# Altium schematic symbol library SamacSys.SchLib: 68 symbols
Pins are listed as number, name and electrical type; pins without a type are passive.

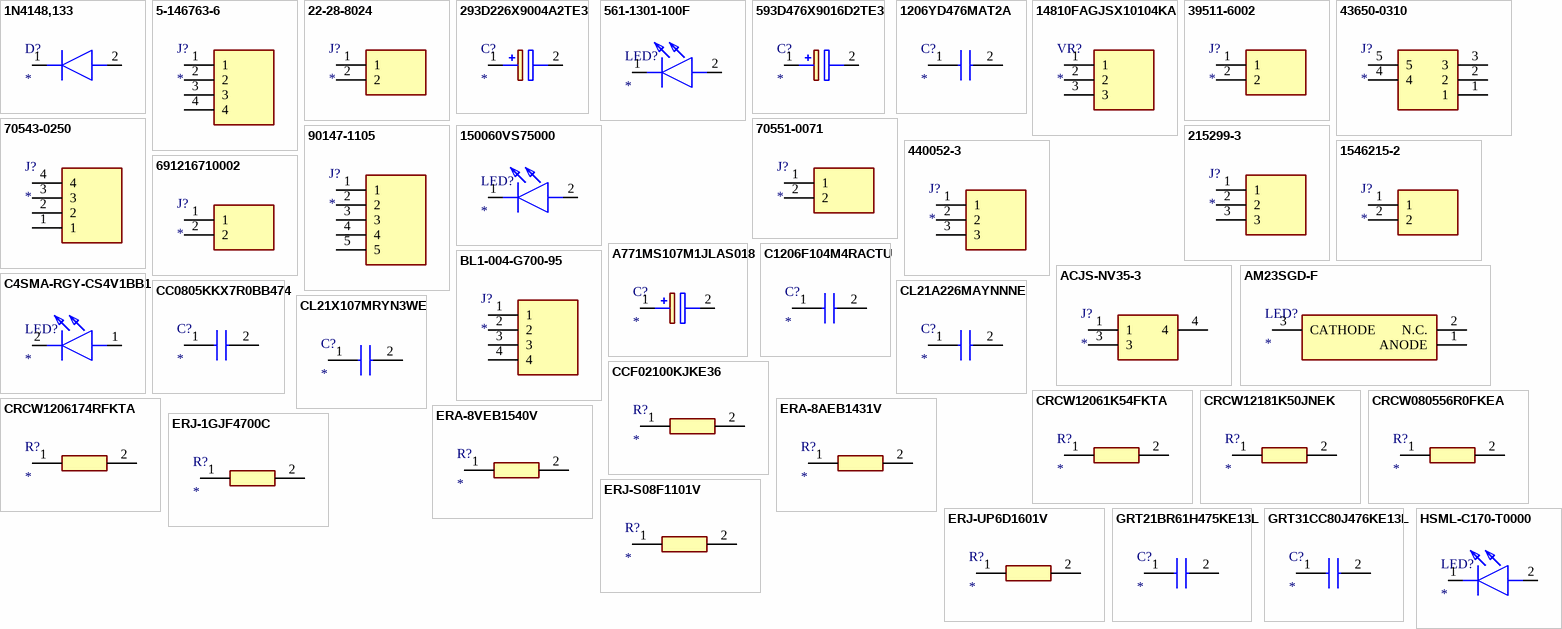
[diagram p0: symbols 1N4148,133 to HSML-C170-T0000]

## 1N4148,133
designator D?
Diode; Manufacturer_Name: Nexperia; Manufacturer_Part_Number: 1N4148,133; Datasheet Link: https://assets.nexperia.com/documents/data-sheet/1N4148_1N4448.pdf; Mouser Part Number: 771-1N4148,133; Mouser Price/Stock: https://www.mouser.co.uk/ProductDetail/Nexperia/1N4148133?qs=elmhQ6eFu7hy8ApvpFxPZg%3D%3D; Arrow Part Number: 1N4148,133; Arrow Price/Stock: https://www.arrow.com/en/products/1n4148133/nxp-semiconductors
footprint DIOAD1165W56L425D185
pins: 1 K, 2 A

## 5-146763-6
designator J?
Connector; Manufacturer_Name: TE Connectivity; Manufacturer_Part_Number: 5-146763-6; Description: 04 MODII VRT SR CE 100; Datasheet Link: https://www.te.com/commerce/DocumentDelivery/DDEController?Action=showdoc&DocId=Customer+Drawing%7F146763%7FH4%7Fpdf%7FEnglish%7FENG_CD_146763_H4.pdf%7F5-146763-6; Height: 8.89mm; Mouser Part Number: 571-5-146763-6; Mouser Price/Stock: https://www.mouser.co.uk/ProductDetail/TE-Connectivity/5-146763-6?qs=0lP%252BFeTxe8ZqcqByeRhudw%3D%3D; Arrow Part Number: 5-146763-6; Arrow Price/Stock: https://www.arrow.com/en/products/5-146763-6/te-connectivity?region=nac
footprint RHDR4W68P0X254_1X4_1016X356X889P
pins: 1, 2, 3, 4

## 22-28-8024
designator J?
Connector; Manufacturer_Name: Molex; Datasheet Link: https://www.molex.com/pdm_docs/sd/022288024_sd.pdf; Height: 2.74mm; Manufacturer_Part_Number: 22-28-8024; Mouser Part Number: 538-22-28-8024; Mouser Price/Stock: https://www.mouser.co.uk/ProductDetail/Molex/22-28-8024?qs=k9kYHbov5vVkaSwo7kQcbg%3D%3D
footprint HDRRA2W66P0X254_1X2_508X229X274P
pins: 1, 2

## 293D226X9004A2TE3
designator C?
Capacitor Polarised; Manufacturer_Name: Vishay; Manufacturer_Part_Number: 293D226X9004A2TE3; Datasheet Link: http://www.vishay.com/docs/40002/293d.pdf; Height: 1.8mm; Mouser Part Number: 74-293D226X9004A2TE3; Mouser Price/Stock: https://www.mouser.co.uk/ProductDetail/Vishay-Sprague/293D226X9004A2TE3?qs=eXAnOQRjAvmASvpC0s6jLA%3D%3D
footprint CAPPM3216X180N
pins: 1 +, 2 -

## 561-1301-100F
designator LED?
LED; Manufacturer_Name: Dialight; Manufacturer_Part_Number: 561-1301-100F; Datasheet Link: https://media.digikey.com/pdf/Data%20Sheets/Dialight%20PDFs/561-zz0z-zzz.pdf; Height: 25.654mm; Mouser Part Number: 645-561-1301-100F; Mouser Price/Stock: https://www.mouser.co.uk/ProductDetail/Dialight/561-1301-100F?qs=0KZIkTEbAAuA32Ooi8rZVQ%3D%3D; Arrow Part Number: 561-1301-100F; Arrow Price/Stock: https://www.arrow.com/en/products/561-1301-100f/dialight
footprint 5611301100F
pins: 1 K, 2 A

## 593D476X9016D2TE3
designator C?
Capacitor Polarised; Manufacturer_Name: Vishay; Manufacturer_Part_Number: 593D476X9016D2TE3; Datasheet Link: http://www.vishay.com/doc?40005; Height: 3.1mm; Mouser Part Number: 74-593D476X9016D2TE3; Mouser Price/Stock: https://www.mouser.co.uk/ProductDetail/Vishay-Sprague/593D476X9016D2TE3?qs=WKZjRGKR2xF7lXVZ0yR4Gw%3D%3D; Arrow Part Number: 593D476X9016D2TE3; Arrow Price/Stock: https://www.arrow.com/en/products/593d476x9016d2te3/vishay?region=nac
footprint CAPPM7343X310N
pins: 1 +, 2 -

## 1206YD476MAT2A
designator C?
Capacitor; Manufacturer_Name: Kyocera AVX; Manufacturer_Part_Number: 1206YD476MAT2A; Datasheet Link: https://www.mouser.co.uk/datasheet/2/40/cx5r-776519.pdf; Height: 2.29mm; Mouser Part Number: 581-1206YD476MAT2A; Mouser Price/Stock: https://www.mouser.co.uk/ProductDetail/KYOCERA-AVX/1206YD476MAT2A?qs=%252BdQmOuGyFcE0u7TEC0Zipw%3D%3D
footprint CAPC3216X229N
pins: 1, 2

## 14810FAGJSX10104KA
designator VR?
Variable Resistor; Manufacturer_Name: Vishay; Manufacturer_Part_Number: 14810FAGJSX10104KA; Datasheet Link: https://www.mouser.co.uk/datasheet/2/427/148149-239924.pdf; Height: 13.1mm; Mouser Part Number: 594-148-7104; Mouser Price/Stock: https://www.mouser.co.uk/ProductDetail/Vishay-Spectrol/14810FAGJSX10104KA?qs=jxJUw0%2FAXLKQRjwLM10Vhg%3D%3D
footprint 14810FAGJSX10104KA
pins: 1, 2, 3

## 39511-6002
designator J?
Connector; Manufacturer_Name: Molex; Manufacturer_Part_Number: 39511-6002; Description: Pluggable Terminal Blocks 3.81MM EURO HEADER V HEADER VERT GRN 2CKT; Datasheet Link: https://au.mouser.com/datasheet/2/276/0395116002_TERMINAL_BLOCKS-164074.pdf; Height: 9.6mm; Mouser Part Number: 538-39511-6002; Mouser Price/Stock: https://www.mouser.co.uk/ProductDetail/Molex/39511-6002?qs=5gX812lLwiHv5sTpASUv%2FQ%3D%3D
footprint 395116002
pins: 1, 2

## 43650-0310
designator J?
Connector; Manufacturer_Name: Molex; Manufacturer_Part_Number: 43650-0310; Datasheet Link: https://www.molex.com/pdm_docs/sd/436500209_sd.pdf; Height: 5.57mm; Mouser Part Number: 538-43650-0310; Mouser Price/Stock: https://www.mouser.co.uk/ProductDetail/Molex/43650-0310?qs=4hg9R9g9MDsujySvOPAVRg%3D%3D
footprint 43650-03YY_091011
pins: 1, 2, 3, 4, 5

## 70543-0250
designator J?
Connector; Manufacturer_Name: Molex; Manufacturer_Part_Number: 70543-0250; Datasheet Link: https://www.molex.com/pdm_docs/sd/705430250_sd.pdf; Height: 11.94mm; Mouser Part Number: 538-70543-0250; Mouser Price/Stock: https://www.mouser.co.uk/ProductDetail/Molex/70543-0250?qs=kYQSPAH4sJy4tcb7Hig5SQ%3D%3D
footprint 705430250
pins: 1, 2, 3, 4

## 70551-0071
designator J?
Connector; Manufacturer_Name: Molex; Manufacturer_Part_Number: 70551-0071; Height: 6.99mm; Mouser Part Number: 538-70551-0071; Mouser Price/Stock: https://www.mouser.co.uk/ProductDetail/Molex/70551-0071?qs=qR36%2FKtWwi%2Fluv9RqAZ1Zw%3D%3D
footprint 705510071
pins: 1, 2

## 90147-1105
designator J?
Connector; Manufacturer_Name: Molex; Manufacturer_Part_Number: 90147-1105; Height: 8.7mm; Mouser Part Number: 538-90147-1105; Mouser Price/Stock: https://www.mouser.co.uk/ProductDetail/Molex/90147-1105?qs=QESXi79X%252BKok%2FrcE1h3Lyg%3D%3D
footprint RHDR5W70P0X254_1X5_1255X244X870P
pins: 1, 2, 3, 4, 5

## 150060VS75000
designator LED?
LED; Manufacturer_Name: Wurth Elektronik; Manufacturer_Part_Number: 150060VS75000; Datasheet Link: https://componentsearchengine.com/Datasheets/2/150060VS75000.pdf; Height: 0.8mm; Mouser Part Number: 710-150060VS75000; Mouser Price/Stock: https://www.mouser.co.uk/ProductDetail/Wurth-Elektronik/150060VS75000?qs=LlUlMxKIyB1Q1Bi5mQ%2FKLw%3D%3D
footprint LEDC1608X80N
pins: 1 K, 2 A

## 215299-3
designator J?
Connector; Manufacturer_Name: TE Connectivity; Manufacturer_Part_Number: 215299-3; Datasheet Link: https://componentsearchengine.com/Datasheets/1/215299-3.pdf; Height: 8.5mm; Mouser Part Number: 571-215299-3; Mouser Price/Stock: https://www.mouser.co.uk/ProductDetail/TE-Connectivity/215299-3?qs=pol9tQvH%252BaHR%252B8PZSmhoEA%3D%3D
footprint SHDR3W78P0X254_1X3_772X252X850P
pins: 1, 2, 3

## 440052-3
designator J?
Connector; Manufacturer_Name: TE Connectivity; Manufacturer_Part_Number: 440052-3; Datasheet Link: https://www.te.com/commerce/DocumentDelivery/DDEController?Action=srchrtrv&DocNm=1-1773713-2_HPI_QRG_EN&DocType=Data%20Sheet&DocLang=English&PartCntxt=440052-3&DocFormat=pdf; Height: 6.3mm; Mouser Part Number: 571-440052-3; Mouser Price/Stock: https://www.mouser.co.uk/ProductDetail/TE-Connectivity/440052-3?qs=JFPmFzpscO5Zy2LImlKaxA%3D%3D; Arrow Part Number: 440052-3; Arrow Price/Stock: https://www.arrow.com/en/products/440052-3/te-connectivity?region=nac
footprint SHDR3W64P0X250_1X3_1000X380X630P
pins: 1, 2, 3

## 1546215-2
designator J?
Connector; Manufacturer_Name: TE Connectivity; Manufacturer_Part_Number: 1546215-2; Datasheet Link: https://www.te.com/commerce/DocumentDelivery/DDEController?Action=srchrtrv&DocNm=1-1773458-1_EURO_STYLE_QRG&DocType=Data%20Sheet&DocLang=English&PartCntxt=1546215-2&DocFormat=pdf; Height: 10.3mm; Mouser Part Number: 571-1546215-2; Mouser Price/Stock: https://www.mouser.co.uk/ProductDetail/TE-Connectivity/1546215-2?qs=Lxq28tKK6BPmJFoAOY7Ljw%3D%3D; Arrow Part Number: 1546215-2; Arrow Price/Stock: https://www.arrow.com/en/products/1546215-2/te-connectivity?region=nac
footprint 15462152
pins: 1, 2

## 691216710002
designator J?
Connector; Manufacturer_Name: Wurth Elektronik; Manufacturer_Part_Number: 691216710002; Datasheet Link: https://katalog.we-online.de/em/datasheet/6912167100XX.pdf; Height: 13.8mm; Mouser Part Number: 710-691216710002; Mouser Price/Stock: https://www.mouser.co.uk/ProductDetail/Wurth-Elektronik/691216710002?qs=w%2Fv1CP2dgqr8TDL32Rr4aQ%3D%3D
footprint SHDR2W90P0X500_1X2_1060X980X1380P
pins: 1, 2

## A771MS107M1JLAS018
designator C?
Capacitor Polarised; Manufacturer_Name: KEMET; Manufacturer_Part_Number: A771MS107M1JLAS018; Datasheet Link: https://search.kemet.com/download/datasheet/A771MS107M1JLAS018; Height: 12.7mm; Mouser Part Number: 80-A771MS107M1JLAS18; Mouser Price/Stock: https://www.mouser.co.uk/ProductDetail/KEMET/A771MS107M1JLAS018?qs=By6Nw2ByBD1azyzbmnH5vw%3D%3D; Arrow Part Number: A771MS107M1JLAS018; Arrow Price/Stock: null?region=nac
footprint A768MS157M1HLAE024
pins: 1 +, 2 -

## ACJS-NV35-3
designator J?
Connector; Manufacturer_Name: Amphenol; Manufacturer_Part_Number: ACJS-NV35-3; Datasheet Link: https://www.amphenolaudio.com/wp-content/uploads/2015/07/55010544000110_acjx-nv35-x.pdf; Height: 27mm; Mouser Part Number: 523-ACJS-NV35-3; Mouser Price/Stock: https://www.mouser.co.uk/ProductDetail/Amphenol-Audio/ACJS-NV35-3?qs=t8VhaDIDl4uNwZ56Tr4iPg%3D%3D; Arrow Part Number: ACJS-NV35-3; Arrow Price/Stock: https://www.arrow.com/en/products/acjs-nv35-3/amphenol-sine-systems
footprint ACJSNV353
pins: 1, 3, 4

## AM23SGD-F
designator LED?
LED; Manufacturer_Name: Kingbright; Manufacturer_Part_Number: AM23SGD-F; Datasheet Link: https://datasheet.datasheetarchive.com/originals/dk/DKDS-14/260841.pdf; Height: 1.45mm; Mouser Part Number: 604-AM23SGD-F; Mouser Price/Stock: https://www.mouser.com/Search/Refine.aspx?Keyword=604-AM23SGD-F
footprint AM23SGDF
pins: 1 ANODE, 2 N.C., 3 CATHODE

## BL1-004-G700-95
designator J?
Connector; Manufacturer_Name: E-TEC; Manufacturer_Part_Number: BL1-004-G700-95; Datasheet Link: http://www.jprelec.co.uk/pdffiles/715-088-099.pdf; Height: 7mm
footprint RHDR4W60P0X254_1X4_1016X254X700P
pins: 1, 2, 3, 4

## C4SMA-RGY-CS4V1BB1
designator LED?
LED; Manufacturer_Name: CREE LED; Manufacturer_Part_Number: C4SMA-RGY-CS4V1BB1; Datasheet Link: https://cree-led.com/media/documents/C4SMA-1442.pdf; Height: 8.8mm; Mouser Part Number: 941-C4SMARGYCS4V1BB1; Mouser Price/Stock: https://www.mouser.co.uk/ProductDetail/Cree-LED/C4SMA-RGY-CS4V1BB1?qs=7D1LtPJG0i08%2Fw1qRIcnyw%3D%3D; Arrow Part Number: C4SMA-RGY-CS4V1BB1; Arrow Price/Stock: https://www.arrow.com/en/products/c4sma-rgy-cs4v1bb1/cree-led?region=nac
footprint C4SMARGYCS4V1BB1
pins: 1 A, 2 K

## C1206F104M4RACTU
designator C?
Capacitor; Manufacturer_Name: KEMET; Manufacturer_Part_Number: C1206F104M4RACTU; Datasheet Link: https://content.kemet.com/datasheets/KEM_C1012_X7R_OPENMODE_SMD.pdf; Mouser Part Number: 80-C1206F104M4R; Mouser Price/Stock: https://www.mouser.com/Search/Refine.aspx?Keyword=80-C1206F104M4R
footprint C1206
pins: 1, 2

## CC0805KKX7R0BB474
designator C?
Capacitor; Manufacturer_Name: YAGEO; Manufacturer_Part_Number: CC0805KKX7R0BB474; Datasheet Link: https://www.arrow.com/en/products/cc0805kkx7r0bb474/yageo?region=nac; Height: 0.95mm; Mouser Part Number: 603-CC0805KX7R0BB474; Mouser Price/Stock: https://www.mouser.co.uk/ProductDetail/YAGEO/CC0805KKX7R0BB474?qs=%252B6g0mu59x7J6Gxc5%2FoipLg%3D%3D; Arrow Part Number: CC0805KKX7R0BB474; Arrow Price/Stock: https://www.arrow.com/en/products/cc0805kkx7r0bb474/yageo?region=nac
footprint CAPC2012X95N
pins: 1, 2

## CCF02100KJKE36
designator R?
Resistor; Manufacturer_Name: Vishay; Manufacturer_Part_Number: CCF02100KJKE36; Datasheet Link: https://www.vishay.com/docs/31012/ccf02.pdf; Mouser Part Number: 71-CCF02100KJKE36; Mouser Price/Stock: https://www.mouser.co.uk/ProductDetail/Vishay-Dale/CCF02100KJKE36?qs=CjqPovozNRzKs0zWEzgyLQ%3D%3D
footprint RESAD2552W86L1080D368
pins: 1, 2

## CL21A226MAYNNNE
designator C?
Capacitor; Manufacturer_Name: SAMSUNG; Manufacturer_Part_Number: CL21A226MAYNNNE; Datasheet Link: http://product.samsungsem.com/mlcc/CL21A226MAYNNN.do; Height: 1.45mm; Mouser Part Number: 187-CL21A226MAYNNNE; Mouser Price/Stock: https://www.mouser.co.uk/ProductDetail/Samsung-Electro-Mechanics/CL21A226MAYNNNE?qs=xZ%2FP%252Ba9zWqY%2FVvCfXjMhqg%3D%3D; Arrow Part Number: CL21A226MAYNNNE; Arrow Price/Stock: https://www.arrow.com/en/products/cl21a226maynnne/samsung-electro-mechanics?region=nac
footprint CAPC2012X145N
pins: 1, 2

## CL21X107MRYN3WE
designator C?
Capacitor; Manufacturer_Name: SAMSUNG; Manufacturer_Part_Number: CL21X107MRYN3WE; Datasheet Link: http://www.samsungsem.com/kr/support/product-search/mlcc/__icsFiles/afieldfile/2019/06/18/CL21B105KBFNNNE-19.pdf; Height: 1.45mm
footprint CAPC2012X145N
pins: 1, 2

## CRCW12061K54FKTA
designator R?
Resistor; Manufacturer_Name: Vishay; Manufacturer_Part_Number: CRCW12061K54FKTA; Datasheet Link: http://componentsearchengine.com/Datasheets/1/CRCW12061K54FKTA.pdf; Height: 0.6mm; Mouser Part Number: 71-CRCW1206-1.54K; Mouser Price/Stock: https://www.mouser.co.uk/ProductDetail/Vishay-Dale/CRCW12061K54FKTA?qs=AHKqt5zS4Bmd9JnYom1Lig%3D%3D
footprint RESC3216X60N
pins: 1, 2

## CRCW12181K50JNEK
designator R?
Resistor; Manufacturer_Name: Vishay; Manufacturer_Part_Number: CRCW12181K50JNEK; Datasheet Link: https://www.vishay.com/docs/20035/dcrcwe3.pdf; Height: 0.6mm
footprint RESC3246X60N
pins: 1, 2

## CRCW080556R0FKEA
designator R?
Resistor; Manufacturer_Name: Vishay; Manufacturer_Part_Number: CRCW080556R0FKEA; Datasheet Link: http://www.vishay.com/docs/20035/dcrcwe3.pdf; Height: 0.5mm; Mouser Part Number: 71-CRCW080556R0FKEA; Mouser Price/Stock: https://www.mouser.co.uk/ProductDetail/Vishay-Dale/CRCW080556R0FKEA?qs=8UjxRNpjuULXqZI3Oden4Q%3D%3D; Arrow Part Number: CRCW080556R0FKEA; Arrow Price/Stock: https://www.arrow.com/en/products/crcw080556r0fkea/vishay?region=nac
footprint RESC2012X50N
pins: 1, 2

## CRCW1206174RFKTA
designator R?
Resistor; Manufacturer_Name: Vishay; Manufacturer_Part_Number: CRCW1206174RFKTA; Height: 0.6mm; Mouser Part Number: 71-CRCW1206-174; Mouser Price/Stock: https://www.mouser.co.uk/ProductDetail/Vishay-Dale/CRCW1206174RFKTA?qs=yGXpg7PJZChK3Wyxj3bB5w%3D%3D
footprint RESC3216X60N
pins: 1, 2

## ERA-8AEB1431V
designator R?
Resistor; Manufacturer_Name: Panasonic; Manufacturer_Part_Number: ERA-8AEB1431V; Datasheet Link: https://industrial.panasonic.com/cdbs/www-data/pdf/RDM0000/AOA0000C307.pdf; Height: 0.7mm; Mouser Part Number: 667-ERA-8AEB1431V; Mouser Price/Stock: https://www.mouser.co.uk/ProductDetail/Panasonic/ERA-8AEB1431V?qs=MNPzkKEzRtRLOshqkJc1UQ%3D%3D
footprint RESC3216X70N
pins: 1, 2

## ERA-8VEB1540V
designator R?
Resistor; Manufacturer_Name: Panasonic; Manufacturer_Part_Number: ERA-8VEB1540V; Datasheet Link: https://industrial.panasonic.com/cdbs/www-data/pdf/RDM0000/RDM0000C331.pdf; Height: 0.65mm
footprint ERA8KEB1004V
pins: 1, 2

## ERJ-1GJF4700C
designator R?
Resistor; Manufacturer_Name: Panasonic; Manufacturer_Part_Number: ERJ-1GJF4700C; Datasheet Link: https://industrial.panasonic.com/cdbs/www-data/pdf/RDA0000/AOA0000C304.pdf; Height: 0.26mm; Mouser Part Number: 667-ERJ-1GJF4700C; Mouser Price/Stock: https://www.mouser.co.uk/ProductDetail/Panasonic/ERJ-1GJF4700C?qs=OcgtsXO%252B3gu9AFcFTiiiHQ%3D%3D
footprint ERJ1GJJ2R4C
pins: 1, 2

## ERJ-S08F1101V
designator R?
Resistor; Manufacturer_Name: Panasonic; Manufacturer_Part_Number: ERJ-S08F1101V; Datasheet Link: http://industrial.panasonic.com/cdbs/www-data/pdf/RDP0000/AOA0000C334.pdf; Height: 0.7mm
footprint ERJS08_U08_(1206)
pins: 1, 2

## ERJ-UP6D1601V
designator R?
Resistor; Manufacturer_Name: Panasonic; Manufacturer_Part_Number: ERJ-UP6D1601V; Datasheet Link: https://industrial.panasonic.com/cdbs/www-data/pdf/RDP0000/AOA0000C337.pdf; Height: 0.7mm; Mouser Part Number: 667-ERJ-UP6D1601V; Mouser Price/Stock: https://www.mouser.co.uk/ProductDetail/Panasonic/ERJ-UP6D1601V?qs=ZcfC38r4Potm8cwy0RM5WA%3D%3D
footprint ERJUP6
pins: 1, 2

## GRT21BR61H475KE13L
designator C?
Capacitor; Manufacturer_Name: Murata Electronics; Manufacturer_Part_Number: GRT21BR61H475KE13L; Datasheet Link: https://psearch.en.murata.com/capacitor/product/GRT21BR61H475KE13%23.html; Height: 1.35mm; Mouser Part Number: 81-GRT21BR61H475KE3L; Mouser Price/Stock: https://www.mouser.co.uk/ProductDetail/Murata-Electronics/GRT21BR61H475KE13L?qs=drgMNd%252BkGPOkdtnwKnU3FQ%3D%3D; Arrow Part Number: GRT21BR61H475KE13L; Arrow Price/Stock: https://www.arrow.com/en/products/grt21br61h475ke13l/murata-manufacturing?region=nac
footprint GRT21BR61E226ME13L
pins: 1, 2

## GRT31CC80J476KE13L
designator C?
Capacitor; Manufacturer_Name: Murata Electronics; Manufacturer_Part_Number: GRT31CC80J476KE13L; Datasheet Link: https://psearch.en.murata.com/capacitor/product/GRT31CC80J476KE13%23.html; Height: 1.8mm; Mouser Part Number: 81-GRT31CC80J476KE3L; Mouser Price/Stock: https://www.mouser.co.uk/ProductDetail/Murata-Electronics/GRT31CC80J476KE13L?qs=drgMNd%252BkGPPnDPuAFTMTlw%3D%3D; Arrow Part Number: GRT31CC80J476KE13L; Arrow Price/Stock: https://www.arrow.com/en/products/grt31cc80j476ke13l/murata-manufacturing?region=nac
footprint CAPC3216X180N
pins: 1, 2

## HSML-C170-T0000
designator LED?
LED; Manufacturer_Name: Avago Technologies; Manufacturer_Part_Number: HSML-C170-T0000; Datasheet Link: https://docs.broadcom.com/docs/HSML-C170-T0000-DS100; Height: 0.9mm; Mouser Part Number: 630-HSML-C170-T0000; Mouser Price/Stock: https://www.mouser.co.uk/ProductDetail/Broadcom-Avago/HSML-C170-T0000?qs=tMOYG%252Bw4%252BLxmTmD%252BKOjV4Q%3D%3D
footprint LEDC2012X90N
pins: 1 K, 2 A

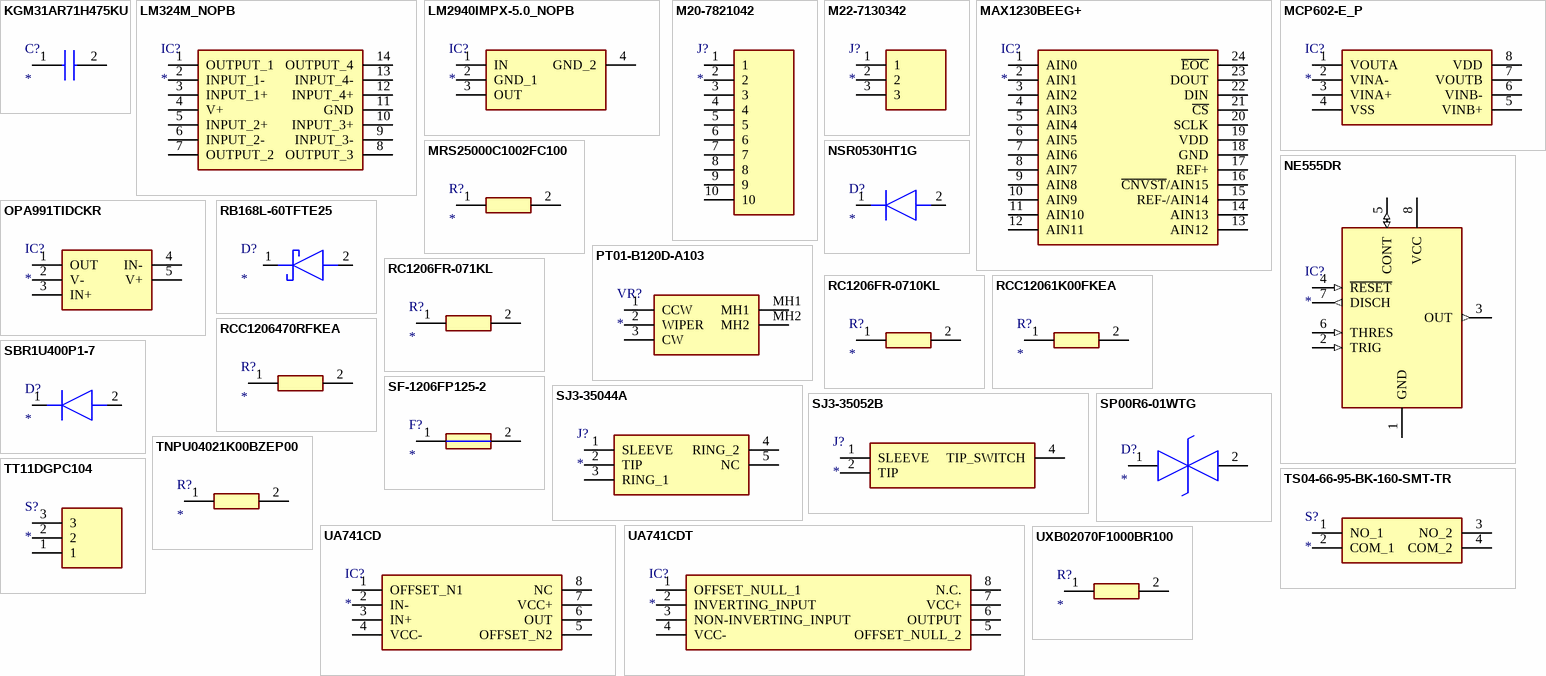
[diagram p1: symbols KGM31AR71H475KU to UXB02070F1000BR100]

## KGM31AR71H475KU
designator C?
Capacitor; Manufacturer_Name: Kyocera AVX; Manufacturer_Part_Number: KGM31AR71H475KU; Datasheet Link: https://eu.mouser.com/datasheet/2/40/KGM_X7R-3223212.pdf; Height: 1.8mm; Mouser Part Number: 581-KGM31AR71H475KU; Mouser Price/Stock: https://www.mouser.co.uk/ProductDetail/KYOCERA-AVX/KGM31AR71H475KU?qs=9vOqFld9vZWqrEB01UnVcA%3D%3D; Arrow Part Number: KGM31AR71H475KU; Arrow Price/Stock: https://www.arrow.com/en/products/kgm31ar71h475ku/avx?region=europe
footprint CAPC3216X180N
pins: 1, 2

## LM324M_NOPB
designator IC?
Integrated Circuit; Manufacturer_Name: Texas Instruments; Manufacturer_Part_Number: LM324M/NOPB; Datasheet Link: http://www.ti.com/lit/ds/symlink/lm324-n.pdf; Height: 1.75mm; Mouser Part Number: 926-LM324M/NOPB; Mouser Price/Stock: https://www.mouser.co.uk/ProductDetail/Texas-Instruments/LM324M-NOPB?qs=X1J7HmVL2ZFotTeVrwhf%252BA%3D%3D; Arrow Part Number: LM324M/NOPB; Arrow Price/Stock: https://www.arrow.com/en/products/lm324mnopb/texas-instruments
footprint SOIC127P600X175-14N
pins: 1 OUTPUT_1, 2 INPUT_1-, 3 INPUT_1+, 4 V+, 5 INPUT_2+, 6 INPUT_2-, 7 OUTPUT_2, 8 OUTPUT_3, 9 INPUT_3-, 10 INPUT_3+, 11 GND, 12 INPUT_4+, 13 INPUT_4-, 14 OUTPUT_4

## LM2940IMPX-5.0_NOPB
designator IC?
Integrated Circuit; Manufacturer_Name: Texas Instruments; Manufacturer_Part_Number: LM2940IMPX-5.0/NOPB; Datasheet Link: http://www.ti.com/lit/gpn/lm2940-n; Height: 1.8mm; Mouser Part Number: 926-LM2940IMPX50NOPB; Mouser Price/Stock: https://www.mouser.co.uk/ProductDetail/Texas-Instruments/LM2940IMPX-5.0-NOPB?qs=X1J7HmVL2ZELzMHXu8bpyQ%3D%3D; Arrow Part Number: LM2940IMPX-5.0/NOPB; Arrow Price/Stock: https://www.arrow.com/en/products/lm2940impx-5.0nopb/texas-instruments?region=nac
footprint SOT230P700X180-4N
pins: 1 IN, 2 GND_1, 3 OUT, 4 GND_2

## M20-7821042
designator J?
Connector; Manufacturer_Name: Harwin; Manufacturer_Part_Number: M20-7821042; Datasheet Link: https://cdn.harwin.com/pdfs/M20-782.pdf; Height: 8.65mm; Mouser Part Number: 855-M20-7821042; Mouser Price/Stock: https://www.mouser.co.uk/ProductDetail/Harwin/M20-7821042?qs=Jph8NoUxIfUg6RlpQXBvqA%3D%3D
footprint SHDR10W70P0X254_1X10_2580X250X865P
pins: 1, 2, 3, 4, 5, 6, 7, 8, 9, 10

## M22-7130342
designator J?
Connector; Manufacturer_Name: Harwin; Manufacturer_Part_Number: M22-7130342; Datasheet Link: https://cdn.harwin.com/pdfs/M22-713.pdf; Height: 4.4mm; Mouser Part Number: 855-M22-7130342; Mouser Price/Stock: https://www.mouser.co.uk/ProductDetail/Harwin/M22-7130342?qs=ulE8k0yEMYayWQDoDALDQw%3D%3D
footprint SHDR3W50P0X200_1X3_650X240X440P
pins: 1, 2, 3

## MAX1230BEEG+
designator IC?
Integrated Circuit; Manufacturer_Name: Analog Devices; Manufacturer_Part_Number: MAX1230BEEG+; Datasheet Link: https://componentsearchengine.com/Datasheets/1/MAX1230BEEG+.pdf; Height: 1.75mm; Mouser Part Number: 700-MAX1230BEEG; Mouser Price/Stock: https://www.mouser.co.uk/ProductDetail/Maxim-Integrated/MAX1230BEEG%2b/?qs=9Cj2FLRihcMtdMqaaF0rig%3D%3D; Arrow Part Number: MAX1230BEEG+; Arrow Price/Stock: https://www.arrow.com/en/products/max1230beeg/analog-devices?region=europe
footprint SOP64P602X175-24N
pins: 1 AIN0, 2 AIN1, 3 AIN2, 4 AIN3, 5 AIN4, 6 AIN5, 7 AIN6, 8 AIN7, 9 AIN8, 10 AIN9, 11 AIN10, 12 AIN11, 13 AIN12, 14 AIN13, 15 REF-/AIN14, 16 ~{CNVST}/AIN15, 17 REF+, 18 GND, 19 VDD, 20 SCLK, 21 ~{CS}, 22 DIN, 23 DOUT, 24 ~{EOC}

## MCP602-E_P
designator IC?
Integrated Circuit; Manufacturer_Name: Microchip; Manufacturer_Part_Number: MCP602-E/P; Datasheet Link: http://uk.rs-online.com/web/p/products/7747438; Height: 5.334mm; Mouser Part Number: 579-MCP602-E/P; Mouser Price/Stock: https://www.mouser.co.uk/ProductDetail/Microchip-Technology/MCP602-E-P?qs=DYhulPWWrtuNZ6eoaQ9R7Q%3D%3D; Arrow Part Number: MCP602-E/P; Arrow Price/Stock: https://www.arrow.com/en/products/mcp602-ep/microchip-technology?region=nac
footprint DIP781W56P254L950H533Q8N
pins: 1 VOUTA, 2 VINA-, 3 VINA+, 4 VSS, 5 VINB+, 6 VINB-, 7 VOUTB, 8 VDD

## MRS25000C1002FC100
designator R?
Resistor; Manufacturer_Name: Vishay; Manufacturer_Part_Number: MRS25000C1002FC100; Datasheet Link: http://www.vishay.com/docs/28724/mrs16m25.pdf; Mouser Part Number: 594-2322-156-11003; Mouser Price/Stock: https://www.mouser.co.uk/ProductDetail/Vishay-BC-Components/MRS25000C1002FC100?qs=B52Dqq1Chl6h6M7hjffcZQ%3D%3D; Arrow Part Number: MRS25000C1002FC100; Arrow Price/Stock: https://www.arrow.com/en/products/mrs25000c1002fc100/vishay?region=nac
footprint RESAD1650W60L650D250
pins: 1, 2

## NE555DR
designator IC?
Integrated Circuit; Manufacturer_Name: Texas Instruments; Manufacturer_Part_Number: NE555DR; Datasheet Link: http://www.ti.com/lit/ds/symlink/ne555.pdf; Height: 1.75mm; Mouser Part Number: 595-NE555DR; Mouser Price/Stock: https://www.mouser.com/Search/Refine.aspx?Keyword=595-NE555DR; RS Part Number: 1218414; RS Price/Stock: http://uk.rs-online.com/web/p/products/1218414
footprint SOIC127P600X175-8N
pins: 1 GND (power), 2 TRIG (in), 3 OUT (out), 4 ~{RESET} (in), 5 CONT (io), 6 THRES (in), 7 DISCH (out), 8 VCC (power)

## NSR0530HT1G
designator D?
Diode; Manufacturer_Name: onsemi; Manufacturer_Part_Number: NSR0530HT1G; Datasheet Link: https://eagle.componentsearchengine.com/Datasheets/5/NSR0530HT1G.pdf; Height: 1.1mm; Mouser Part Number: 863-NSR0530HT1G; Mouser Price/Stock: https://www.mouser.co.uk/ProductDetail/onsemi/NSR0530HT1G?qs=raqtESnDWsD7hIBo7i2utQ%3D%3D; Arrow Part Number: NSR0530HT1G; Arrow Price/Stock: https://www.arrow.com/en/products/nsr0530ht1g/on-semiconductor?region=nac
footprint SOD2512X110N
pins: 1 K, 2 A

## OPA991TIDCKR
designator IC?
Integrated Circuit; Manufacturer_Name: Texas Instruments; Manufacturer_Part_Number: OPA991TIDCKR; Datasheet Link: https://www.ti.com/lit/ds/symlink/opa991.pdf?ts=1634650356786&ref_url=https%253A%252F%252Feu.mouser.com%252F; Height: 1.1mm; Mouser Part Number: 595-OPA991TIDCKR; Mouser Price/Stock: https://www.mouser.co.uk/ProductDetail/Texas-Instruments/OPA991TIDCKR?qs=Wj%2FVkw3K%252BMD%2FIzu2Yv2xzw%3D%3D; Arrow Part Number: OPA991TIDCKR; Arrow Price/Stock: https://www.arrow.com/en/products/opa991tidckr/texas-instruments?region=nac
footprint SOT65P210X110-5N
pins: 1 OUT, 2 V-, 3 IN+, 4 IN-, 5 V+

## PT01-B120D-A103
designator VR?
Variable Resistor; Manufacturer_Name: Same Sky; Manufacturer_Part_Number: PT01-B120D-A103; Datasheet Link: https://www.cuidevices.com/product/resource/pt01.pdf; Height: 16mm; Mouser Part Number: 179-PT01-B120D-A103; Mouser Price/Stock: https://www.mouser.co.uk/ProductDetail/CUI-Devices/PT01-B120D-A103?qs=Rp5uXu7WBW9W%2F89xdyZZvA%3D%3D
footprint PT01B120DA103
pins: 1 CCW, 2 WIPER, 3 CW, MH1, MH2

## RB168L-60TFTE25
designator D?
Schottky Diode; Manufacturer_Name: ROHM Semiconductor; Manufacturer_Part_Number: RB168L-60TFTE25; Datasheet Link: https://fscdn.rohm.com/en/products/databook/datasheet/discrete/diode/schottky_barrier/rb168l-60tfte25-e.pdf; Height: 2.2mm; Mouser Part Number: 755-RB168L-60TFTE25; Mouser Price/Stock: https://www.mouser.co.uk/ProductDetail/ROHM-Semiconductor/RB168L-60TFTE25?qs=4v%252BiZTmLVHHXHBPPA5dksA%3D%3D
footprint DIOM5026X220N
pins: 1 K, 2 A

## RC1206FR-071KL
designator R?
Resistor; Manufacturer_Name: KEMET; Manufacturer_Part_Number: RC1206FR-071KL; Datasheet Link: https://www.sos.sk/productdata/35/10/4/35104/RC1206.pdf; Height: 0.65mm; Mouser Part Number: 603-RC1206FR-071KL; Mouser Price/Stock: https://www.mouser.co.uk/ProductDetail/YAGEO/RC1206FR-071KL?qs=HQvIwrFd5cVee6AAIEc2GA%3D%3D; Arrow Part Number: RC1206FR-071KL; Arrow Price/Stock: https://www.arrow.com/en/products/rc1206fr-071kl/yageo?region=europe
footprint RESC3116X65N
pins: 1, 2

## RC1206FR-0710KL
designator R?
Resistor; Manufacturer_Name: YAGEO; Manufacturer_Part_Number: RC1206FR-0710KL; Datasheet Link: https://www.yageo.com/upload/media/product/app/datasheet/rchip/pyu-rc_group_51_rohs_l.pdf; Height: 0.65mm; Mouser Part Number: 603-RC1206FR-0710KL; Mouser Price/Stock: https://www.mouser.co.uk/ProductDetail/YAGEO/RC1206FR-0710KL?qs=%252BhB4WxZmbVEJV82xdVgRUw%3D%3D; Arrow Part Number: RC1206FR-0710KL; Arrow Price/Stock: https://www.arrow.com/en/products/rc1206fr-0710kl/yageo?region=europe
footprint RESC3116X65N
pins: 1, 2

## RCC12061K00FKEA
designator R?
Resistor; Manufacturer_Name: Vishay; Manufacturer_Part_Number: RCC12061K00FKEA; Datasheet Link: https://www.vishay.com/docs/20066/rcce3.pdf; Height: 0.6mm; Mouser Part Number: 71-RCC12061K00FKEA; Mouser Price/Stock: https://www.mouser.co.uk/ProductDetail/Vishay-Dale/RCC12061K00FKEA?qs=IS%252B4QmGtzzoI2b9zl4DztQ%3D%3D; Arrow Part Number: RCC12061K00FKEA; Arrow Price/Stock: https://www.arrow.com/en/products/rcc12061k00fkea/vishay?utm_currency=USD&region=nac
footprint RCC1206_e3
pins: 1, 2

## RCC1206470RFKEA
designator R?
Resistor; Manufacturer_Name: Vishay; Manufacturer_Part_Number: RCC1206470RFKEA; Datasheet Link: https://www.vishay.com/docs/20066/rcce3.pdf; Height: 0.6mm
footprint RCC1206_e3
pins: 1, 2

## SBR1U400P1-7
designator D?
Diode; Manufacturer_Name: Diodes Incorporated; Manufacturer_Part_Number: SBR1U400P1-7; Datasheet Link: https://componentsearchengine.com/Datasheets/2/SBR1U400P1-7.pdf; Height: 1mm; Mouser Part Number: 621-SBR1U400P1-7; Mouser Price/Stock: https://www.mouser.co.uk/ProductDetail/Diodes-Incorporated/SBR1U400P1-7?qs=F%252BMksZCx5FCZNrtpKRpk0w%3D%3D; Arrow Part Number: SBR1U400P1-7; Arrow Price/Stock: https://www.arrow.com/en/products/sbr1u400p1-7/diodes-incorporated?region=asia
footprint SBR1U400P17
pins: 1 K, 2 A

## SF-1206FP125-2
designator F?
Fuse; Manufacturer_Name: Bourns; Manufacturer_Part_Number: SF-1206FP125-2; Datasheet Link: https://www.bourns.com/docs/product-datasheets/sf-1206fp.pdf; Height: 0.7mm; Mouser Part Number: 652-SF-1206FP125-2; Mouser Price/Stock: https://www.mouser.co.uk/ProductDetail/Bourns/SF-1206FP125-2?qs=YCa%2FAAYMW03arYqWrnBYMQ%3D%3D; Arrow Part Number: SF-1206FP125-2; Arrow Price/Stock: https://www.arrow.com/en/products/sf-1206fp125-2/bourns?region=nac
footprint FUSC3116X70N
pins: 1, 2

## SJ3-35044A
designator J?
Connector; Manufacturer_Name: Same Sky; Manufacturer_Part_Number: SJ3-35044A; Datasheet Link: https://www.cuidevices.com/product/resource/sj3-35044a.pdf; Height: 6.3mm; Mouser Part Number: 179-SJ3-35044A; Mouser Price/Stock: https://www.mouser.co.uk/ProductDetail/CUI-Devices/SJ3-35044A?qs=IKkN%2F947nfA%2F9r2%2FyF4SEA%3D%3D
footprint SJ335044A
pins: 1 SLEEVE, 2 TIP, 3 RING_1, 4 RING_2, 5 NC

## SJ3-35052B
designator J?
Connector; Manufacturer_Name: Same Sky; Manufacturer_Part_Number: SJ3-35052B; Datasheet Link: https://www.cuidevices.com/product/resource/sj3-3505x.pdf; Height: 17.75mm; Mouser Part Number: 179-SJ3-35052B; Mouser Price/Stock: https://www.mouser.co.uk/ProductDetail/CUI-Devices/SJ3-35052B?qs=IKkN%2F947nfDmh7CCP4LptQ%3D%3D
footprint SJ335052B
pins: 1 SLEEVE, 2 TIP, 4 TIP_SWITCH

## SP00R6-01WTG
designator D?
Diode ESD (Bi-directional); Manufacturer_Name: LITTELFUSE; Manufacturer_Part_Number: SP00R6-01WTG; Datasheet Link: https://www.littelfuse.com/media?resourcetype=datasheets&itemid=5fa6369d-0e65-4a4f-8ed7-0e61eb3c9fbf&filename=littelfuse-tvs-diode-array-sp00r6-datasheet; Height: 0.329mm; Mouser Part Number: 576-SP00R6-01WTG; Mouser Price/Stock: https://www.mouser.co.uk/ProductDetail/Littelfuse/SP00R6-01WTG?qs=Rp5uXu7WBW8WFDFDswwZLA%3D%3D; Arrow Part Number: SP00R6-01WTG; Arrow Price/Stock: null?region=nac
footprint SP00R601WTG
pins: 1 K1, 2 K2

## TNPU04021K00BZEP00
designator R?
Resistor; Manufacturer_Name: Vishay; Manufacturer_Part_Number: TNPU04021K00BZEP00; Datasheet Link: https://www.vishay.com/docs/28779/tnpue3.pdf; Height: 0.4mm; Mouser Part Number: 71-TNPU04021K00BZEP0; Mouser Price/Stock: https://www.mouser.co.uk/ProductDetail/Vishay-Draloric/TNPU04021K00BZEP00?qs=Cb2nCFKsA8qoR7PlcPQHOQ%3D%3D; Arrow Part Number: TNPU04021K00BZEP00; Arrow Price/Stock: https://www.arrow.com/en/products/tnpu04021k00bzep00/vishay?region=nac
footprint RESC1005X40N
pins: 1, 2

## TS04-66-95-BK-160-SMT-TR
designator S?
Switch; Manufacturer_Name: Same Sky; Manufacturer_Part_Number: TS04-66-95-BK-160-SMT-TR; Datasheet Link: https://www.cuidevices.com/product/resource/ts04.pdf; Height: 9.7mm; Mouser Part Number: 179-TS046695BK160SMR; Mouser Price/Stock: https://www.mouser.co.uk/ProductDetail/CUI-Devices/TS04-66-95-BK-160-SMT-TR?qs=VJzv269c%252BPZ4T0IrjAQJjg%3D%3D; Arrow Part Number: TS04-66-95-BK-160-SMT-TR; Arrow Price/Stock: https://www.arrow.com/en/products/ts04-66-95-bk-160-smt-tr/cui-devices?region=nac
footprint TS046695BK160SMTTR
pins: 1 NO_1, 2 COM_1, 3 NO_2, 4 COM_2

## TT11DGPC104
designator S?
Switch; Manufacturer_Name: TE Connectivity; Manufacturer_Part_Number: TT11DGPC104; Datasheet Link: https://www.te.com/commerce/DocumentDelivery/DDEController?Action=srchrtrv&DocNm=1825219-2&DocType=CD&DocLang=EN; Height: 19.38mm; Mouser Part Number: 506-TT11DGPC104; Mouser Price/Stock: https://www.mouser.co.uk/ProductDetail/TE-Connectivity-PB/TT11DGPC104?qs=W6FIH8d5%2F%2F0QdtbdwKQ%252BdA%3D%3D; Arrow Part Number: TT11DGPC104; Arrow Price/Stock: https://www.arrow.com/en/products/tt11dgpc104/te-connectivity?region=nac
footprint TT11DGPC104
pins: 1, 2, 3

## UA741CD
designator IC?
Integrated Circuit; Manufacturer_Name: Texas Instruments; Manufacturer_Part_Number: UA741CD; Datasheet Link: http://www.ti.com/lit/ds/symlink/ua741.pdf; Height: 1.75mm; Mouser Part Number: 595-UA741CD; Mouser Price/Stock: https://www.mouser.co.uk/ProductDetail/Texas-Instruments/UA741CD?qs=WzgTT80quPFAtpKavrxmtQ%3D%3D; Arrow Part Number: UA741CD; Arrow Price/Stock: https://www.arrow.com/en/products/ua741cd/texas-instruments?utm_currency=USD&region=nac
footprint SOIC127P600X175-8N
pins: 1 OFFSET_N1, 2 IN-, 3 IN+, 4 VCC-, 5 OFFSET_N2, 6 OUT, 7 VCC+, 8 NC

## UA741CDT
designator IC?
Integrated Circuit; Manufacturer_Name: STMicroelectronics; Manufacturer_Part_Number: UA741CDT; Datasheet Link: http://www.st.com/st-web-ui/static/active/en/resource/technical/document/datasheet/CD00001252.pdf; Height: 1.75mm; Mouser Part Number: 511-UA741CDT; Mouser Price/Stock: https://www.mouser.co.uk/ProductDetail/STMicroelectronics/UA741CDT?qs=%2FlukYmqnbBNY05lTc81SqA%3D%3D; Arrow Part Number: UA741CDT; Arrow Price/Stock: https://www.arrow.com/en/products/ua741cdt/stmicroelectronics?utm_currency=USD&region=nac
footprint SOIC127P600X175-8N
pins: 1 OFFSET_NULL_1, 2 INVERTING_INPUT, 3 NON-INVERTING_INPUT, 4 VCC-, 5 OFFSET_NULL_2, 6 OUTPUT, 7 VCC+, 8 N.C.

## UXB02070F1000BR100
designator R?
Resistor; Manufacturer_Name: Vishay; Manufacturer_Part_Number: UXB02070F1000BR100; Datasheet Link: http://www.vishay.com/docs/28726/uxa0204.pdf; Mouser Part Number: 594-UXB02070F1000BR1; Mouser Price/Stock: https://www.mouser.co.uk/ProductDetail/Vishay-Beyschlag/UXB02070F1000BR100?qs=AUpaymU3LOg2e0j2rq%252Bujg%3D%3D
footprint RESAD1630W60L630D250
pins: 1, 2